# EAGLE library part MP2410 (library CustomParts)
The MP2410 is a 24V, monolithic, synchronous, step-down, white LED driver with a built-in power MOSFET and rectifier.
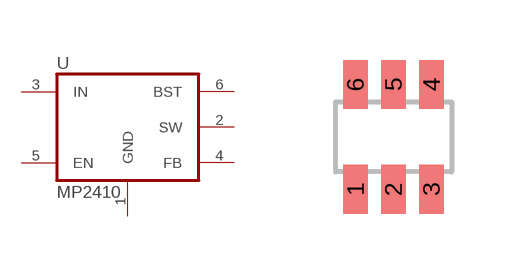
[diagram p0: symbol with the pads of TSOT23-6; footprint TSOT23-6]

Designator prefix -

## MP2410  [TSOT23-6]
1  GND  in
2  SW  out
3  IN  in
4  FB  in
5  EN  in
6  BST  out

## Footprint TSOT23-6 (pad centres in mm)
The MP2410 is a 24V, monolithic, synchronous, step-down, white LED driver with a built-in power MOSFET and rectifier.
smd 0.622 x 1.22: 1 -0.95,-1.31; 2 0,-1.31; 3 0.95,-1.31; 4 0.95,1.31; 5 0,1.31; 6 -0.95,1.31